# EAGLE library part RASPBERRYPI_COMPUTE_CONNECTOR (library RaspberryPi)
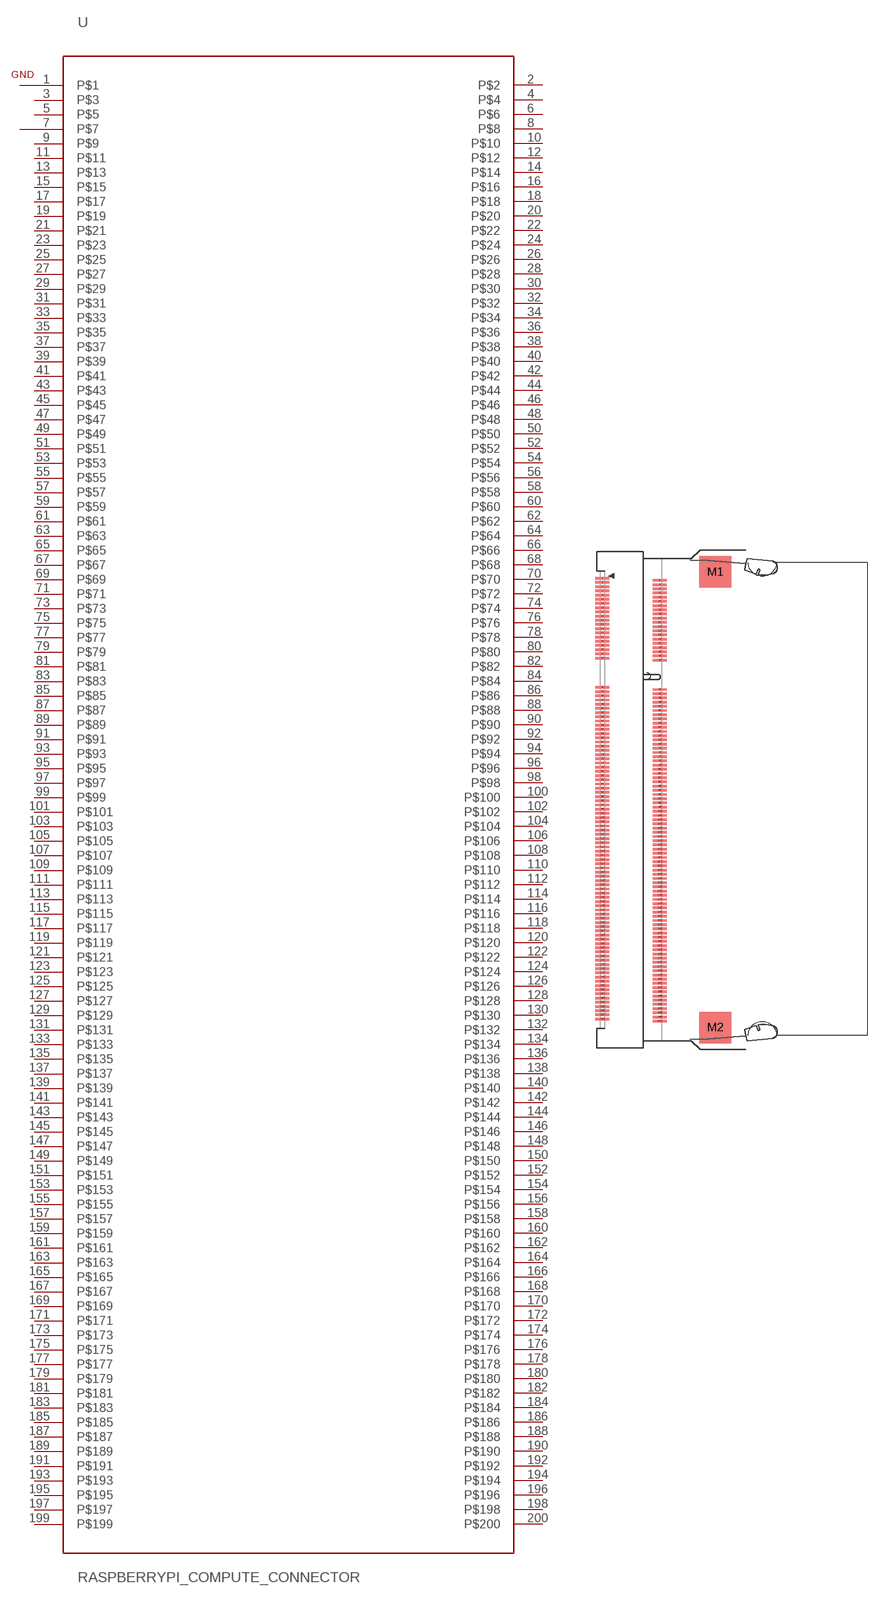
[diagram p0: symbol with the pads of SODIMM_CONNECTOR_AND_BOARD; footprint SODIMM_CONNECTOR_AND_BOARD]

Designator prefix U

## RASPBERRYPI_COMPUTE_CONNECTOR  [SODIMM_CONNECTOR_AND_BOARD]
1  P$1  pwr
2  P$2
3  P$3
4  P$4
5  P$5
6  P$6
7  P$7  pwr
8  P$8
9  P$9
10  P$10
11  P$11
12  P$12
13  P$13
14  P$14
15  P$15
16  P$16
17  P$17
18  P$18
19  P$19
20  P$20
21  P$21
22  P$22
23  P$23
24  P$24
25  P$25
26  P$26
27  P$27
28  P$28
29  P$29
30  P$30
31  P$31
32  P$32
33  P$33
34  P$34
35  P$35
36  P$36
37  P$37
38  P$38
39  P$39
40  P$40
41  P$41
42  P$42
43  P$43
44  P$44
45  P$45
46  P$46
47  P$47
48  P$48
49  P$49
50  P$50
51  P$51
52  P$52
53  P$53
54  P$54
55  P$55
56  P$56
57  P$57
58  P$58
59  P$59
60  P$60
61  P$61
62  P$62
63  P$63
64  P$64
65  P$65
66  P$66
67  P$67
68  P$68
69  P$69
70  P$70
71  P$71
72  P$72
73  P$73
74  P$74
75  P$75
76  P$76
77  P$77
78  P$78
79  P$79
80  P$80
81  P$81
82  P$82
83  P$83
84  P$84
85  P$85
86  P$86
87  P$87
88  P$88
89  P$89
90  P$90
91  P$91
92  P$92
93  P$93
94  P$94
95  P$95
96  P$96
97  P$97
98  P$98
99  P$99
100  P$100
101  P$101
102  P$102
103  P$103
104  P$104
105  P$105
106  P$106
107  P$107
108  P$108
109  P$109
110  P$110
111  P$111
112  P$112
113  P$113
114  P$114
115  P$115
116  P$116
117  P$117
118  P$118
119  P$119
120  P$120
121  P$121
122  P$122
123  P$123
124  P$124
125  P$125
126  P$126
127  P$127
128  P$128
129  P$129
130  P$130
131  P$131
132  P$132
133  P$133
134  P$134
135  P$135
136  P$136
137  P$137
138  P$138
139  P$139
140  P$140
141  P$141
142  P$142
143  P$143
144  P$144
145  P$145
146  P$146
147  P$147
148  P$148
149  P$149
150  P$150
151  P$151
152  P$152
153  P$153
154  P$154
155  P$155
156  P$156
157  P$157
158  P$158
159  P$159
160  P$160
161  P$161
162  P$162
163  P$163
164  P$164
165  P$165
166  P$166
167  P$167
168  P$168
169  P$169
170  P$170
171  P$171
172  P$172
173  P$173
174  P$174
175  P$175
176  P$176
177  P$177
178  P$178
179  P$179
180  P$180
181  P$181
182  P$182
183  P$183
184  P$184
185  P$185
186  P$186
187  P$187
188  P$188
189  P$189
190  P$190
191  P$191
192  P$192
193  P$193
194  P$194
195  P$195
196  P$196
197  P$197
198  P$198
199  P$199
200  P$200

## Footprint SODIMM_CONNECTOR_AND_BOARD (pad centres in mm)
smd 2 x 0.35: 1 -19.34,30.11; 2 -11.14,29.81; 3 -19.34,29.51; 4 -11.14,29.21; 5 -19.34,28.91; 6 -11.14,28.61; 7 -19.34,28.31; 8 -11.14,28.01; 9 -19.34,27.71; 10 -11.14,27.41; 11 -19.34,27.11; 12 -11.14,26.81; 13 -19.34,26.51; 14 -11.14,26.21; 15 -19.34,25.91; 16 -11.14,25.61; 17 -19.34,25.31; 18 -11.14,25.01; 19 -19.34,24.71; 20 -11.14,24.41; 21 -19.34,24.11; 22 -11.14,23.81; 23 -19.34,23.51; 24 -11.14,23.21; 25 -19.34,22.91; 26 -11.14,22.61; 27 -19.34,22.31; 28 -11.14,22.01; 29 -19.34,21.71; 30 -11.14,21.41; 31 -19.34,21.11; 32 -11.14,20.81; 33 -19.34,20.51; 34 -11.14,20.21; 35 -19.34,19.91; 36 -11.14,19.61; 37 -19.34,19.31; 38 -11.14,19.01; 39 -19.34,18.71; 40 -11.14,18.41; 41 -19.34,14.51; 42 -11.14,14.21; 43 -19.34,13.91; 44 -11.14,13.61; 45 -19.34,13.31; 46 -11.14,13.01; 47 -19.34,12.71; 48 -11.14,12.41; 49 -19.34,12.11; 50 -11.14,11.81; 51 -19.34,11.51; 52 -11.14,11.21; 53 -19.34,10.91; 54 -11.14,10.61; 55 -19.34,10.31; 56 -11.14,10.01; 57 -19.34,9.71; 58 -11.14,9.41; 59 -19.34,9.11; 60 -11.14,8.81; 61 -19.34,8.51; 62 -11.14,8.21; 63 -19.34,7.91; 64 -11.14,7.61; 65 -19.34,7.31; 66 -11.14,7.01; 67 -19.34,6.71; 68 -11.14,6.41; 69 -19.34,6.11; 70 -11.14,5.81; 71 -19.34,5.51; 72 -11.14,5.21; 73 -19.34,4.91; 74 -11.14,4.61; 75 -19.34,4.31; 76 -11.14,4.01; 77 -19.34,3.71; 78 -11.14,3.41; 79 -19.34,3.11; 80 -11.14,2.81; 81 -19.34,2.51; 82 -11.14,2.21; 83 -19.34,1.91; 84 -11.14,1.61; 85 -19.34,1.31; 86 -11.14,1.01; 87 -19.34,0.71; 88 -11.14,0.41; 89 -19.34,0.11; 90 -11.14,-0.19; 91 -19.34,-0.49; 92 -11.14,-0.79; 93 -19.34,-1.09; 94 -11.14,-1.39; 95 -19.34,-1.69; 96 -11.14,-1.99; 97 -19.34,-2.29; 98 -11.14,-2.59; 99 -19.34,-2.89; 100 -11.14,-3.19; 101 -19.34,-3.49; 102 -11.14,-3.79; 103 -19.34,-4.09; 104 -11.14,-4.39; 105 -19.34,-4.69; 106 -11.14,-4.99; 107 -19.34,-5.29; 108 -11.14,-5.59; 109 -19.34,-5.89; 110 -11.14,-6.19; 111 -19.34,-6.49; 112 -11.14,-6.79; 113 -19.34,-7.09; 114 -11.14,-7.39; 115 -19.34,-7.69; 116 -11.14,-7.99; 117 -19.34,-8.29; 118 -11.14,-8.59; 119 -19.34,-8.89; 120 -11.14,-9.19; 121 -19.34,-9.49; 122 -11.14,-9.79; 123 -19.34,-10.09; 124 -11.14,-10.39; 125 -19.34,-10.69; 126 -11.14,-10.99; 127 -19.34,-11.29; 128 -11.14,-11.59; 129 -19.34,-11.89; 130 -11.14,-12.19; 131 -19.34,-12.49; 132 -11.14,-12.79; 133 -19.34,-13.09; 134 -11.14,-13.39; 135 -19.34,-13.69; 136 -11.14,-13.99; 137 -19.34,-14.29; 138 -11.14,-14.59; 139 -19.34,-14.89; 140 -11.14,-15.19; 141 -19.34,-15.49; 142 -11.14,-15.79; 143 -19.34,-16.09; 144 -11.14,-16.39; 145 -19.34,-16.69; 146 -11.14,-16.99; 147 -19.34,-17.29; 148 -11.14,-17.59; 149 -19.34,-17.89; 150 -11.14,-18.19; 151 -19.34,-18.49; 152 -11.14,-18.79; 153 -19.34,-19.09; 154 -11.14,-19.39; 155 -19.34,-19.69; 156 -11.14,-19.99; 157 -19.34,-20.29; 158 -11.14,-20.59; 159 -19.34,-20.89; 160 -11.14,-21.19; 161 -19.34,-21.49; 162 -11.14,-21.79; 163 -19.34,-22.09; 164 -11.14,-22.39; 165 -19.34,-22.69; 166 -11.14,-22.99; 167 -19.34,-23.29; 168 -11.14,-23.59; 169 -19.34,-23.89; 170 -11.14,-24.19; 171 -19.34,-24.49; 172 -11.14,-24.79; 173 -19.34,-25.09; 174 -11.14,-25.39; 175 -19.34,-25.69; 176 -11.14,-25.99; 177 -19.34,-26.29; 178 -11.14,-26.59; 179 -19.34,-26.89; 180 -11.14,-27.19; 181 -19.34,-27.49; 182 -11.14,-27.79; 183 -19.34,-28.09; 184 -11.14,-28.39; 185 -19.34,-28.69; 186 -11.14,-28.99; 187 -19.34,-29.29; 188 -11.14,-29.59; 189 -19.34,-29.89; 190 -11.14,-30.19; 191 -19.34,-30.49; 192 -11.14,-30.79; 193 -19.34,-31.09; 194 -11.14,-31.39; 195 -19.34,-31.69; 196 -11.14,-31.99; 197 -19.34,-32.29; 198 -11.14,-32.59; 199 -19.34,-32.89; 200 -11.14,-33.19
smd 4.6 x 4.5: M1 -3.24,31.01; M2 -3.24,-34.09